# Altium footprint library tsx-3225.PcbLib: 1 footprints
Each footprint in its own frame and in the unit in brackets; x right, y up, seen from the top. Pads: shape width x height; smd on the part's side, far side on the other; paste and mask are expansions set on the pad; w line width, h text height; cw(c..) or ccw(c..) is an arc to the next point about the centre after c.
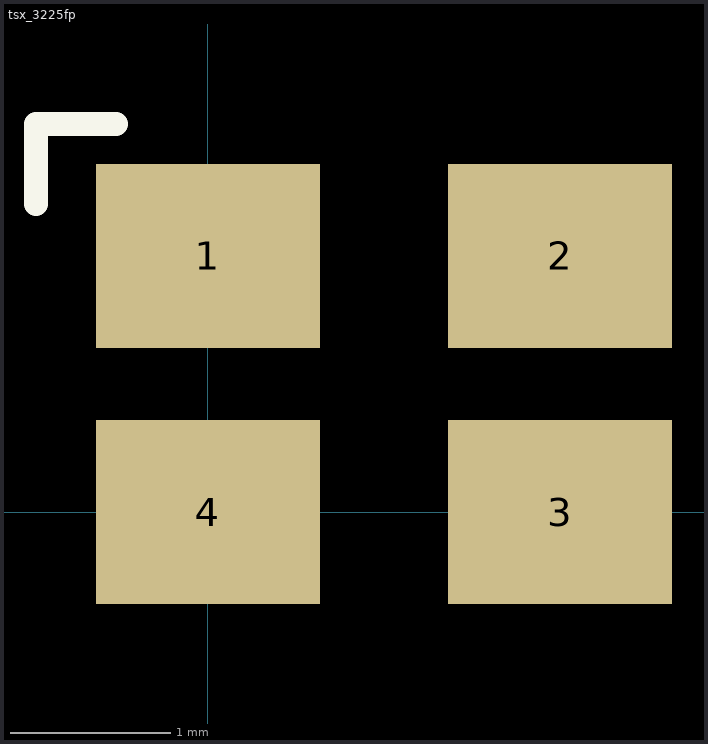
[diagram p0: the footprint, top view; thin cyan lines are the x and y axes]

## tsx_3225fp [mm]
pads (4):
  rect 1.4x1.15 smd: 1(0,1.6) 2(2.2,1.6) 3(2.2,0) 4(0,0)
Top Overlay:
  lines w0.15: -1.075,1.925 -1.075,2.425 -0.575,2.425